# Altium schematic symbol library SCH - DIODES - ZENER_VRef_SOT23_3.SCHLIB: 1 symbol
Pins are listed as number, name and electrical type; pins without a type are passive.

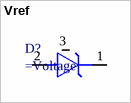
[diagram p0: symbol Vref]

## Vref
designator D?
Diode, Zener, 5.6V, 0.5W
pins: 1 K, 2 A, 3 NC